# EAGLE library part MPL3115A2 (library mpl3115a2)
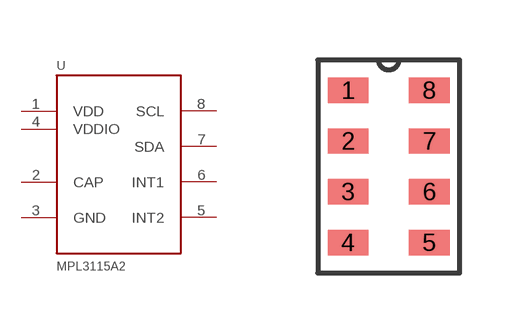
[diagram p0: symbol with the pads of MPL3115A2; footprint MPL3115A2]

Designator prefix U

## MPL3115A2  [MPL3115A2]
1  VDD  pwr
2  CAP  pas
3  GND  pwr
4  VDDIO  pwr
5  INT2
6  INT1
7  SDA
8  SCL

## Footprint MPL3115A2 (pad centres in mm)
smd 1.016 x 0.635: 1 -1.016,2.032; 2 -1.016,0.762; 3 -1.016,-0.508; 4 -1.016,-1.778; 5 1.016,-1.778; 6 1.016,-0.508; 7 1.016,0.762; 8 1.016,2.032